# EAGLE library part 750311692 (library WE-PP_TRANSFORMER)
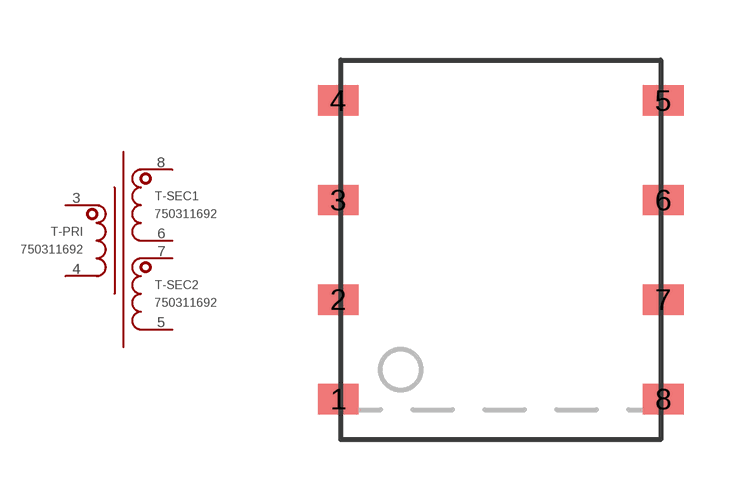
[diagram p2: symbol with the pads of 750311692; footprint 750311692]

Designator prefix T; gates -PRI=WINDING-SINGLE-LEFT -SEC1=WINDING-SINGLE-RIGHT -SEC2=WINDING-SINGLE-RIGHT

## 750311692 (MARK: 311692; MF: Würth Elektronik; MPN: 750311692)  [750311692]
3  -PRI:1
4  -PRI:2
5  -SEC2:2
6  -SEC1:2
7  -SEC2:1
8  -SEC1:1

## Footprint 750311692 (pad centres in mm)
smd 1.02 x 0.76: 1 -4.065,-3.735; 2 -4.065,-1.245; 3 -4.065,1.245; 4 -4.065,3.735; 5 4.065,3.735; 6 4.065,1.245; 7 4.065,-1.245; 8 4.065,-3.735